# Altium integrated library TI Power Management Power Modules.IntLib: 831 symbols (part 26 of 44)
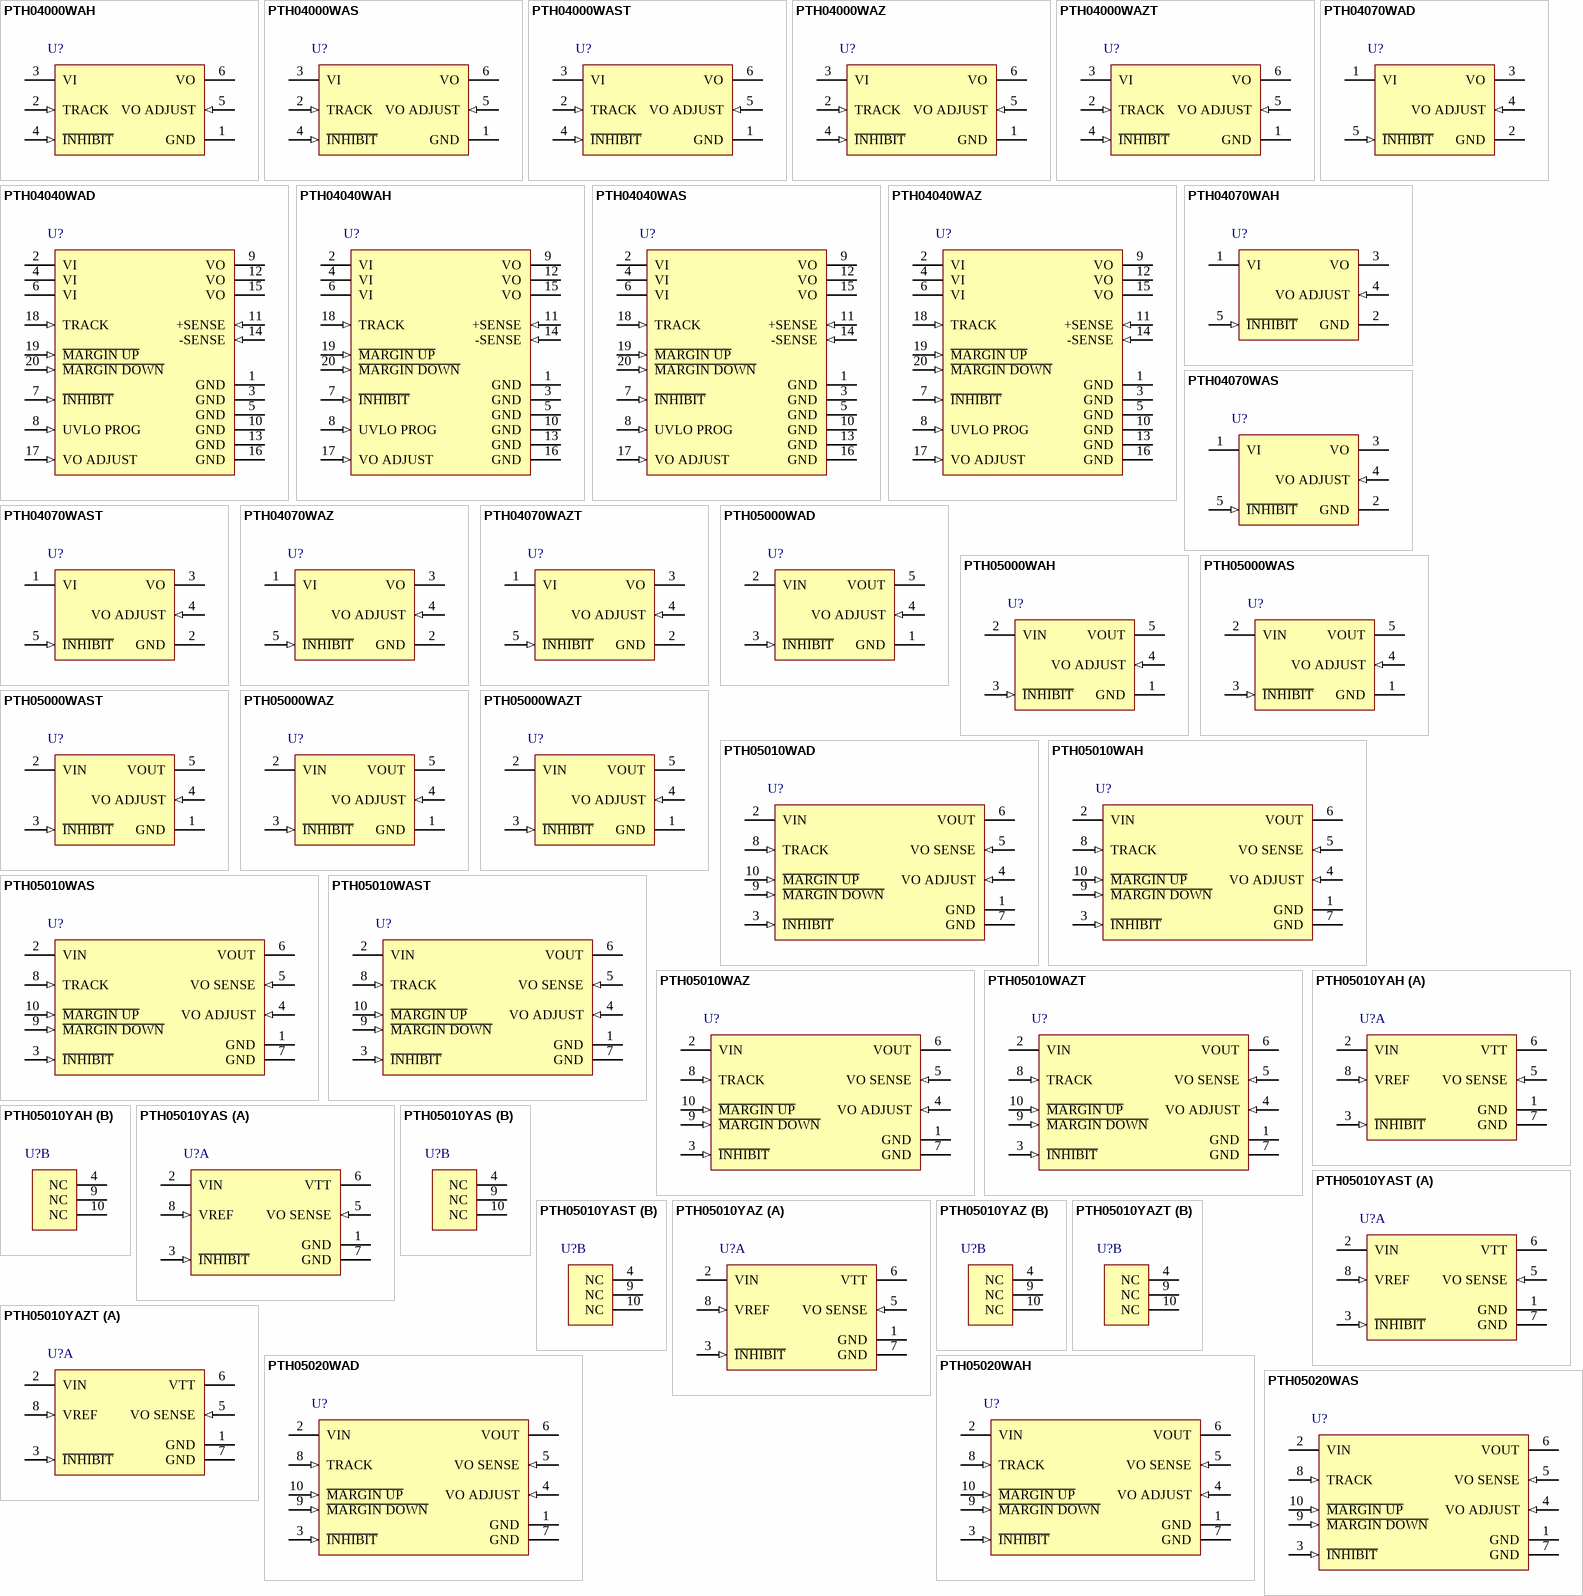
[diagram p48: symbols PTH04000WAH to PTH05020WAS]

## PTH05010WAZ
designator U?
15 A, 5 V Input Wide-Output Adjust Plug-in Power Module, -40 to 85 degC, 10-pin Module (EUJ10), Pb-Free (RoHS); Manufacturer: Texas Instruments; PartNumber: PTH05010WAZ; Iout(Max)(A): 15; Regulated Outputs(#): 1; SubFamily: Non-Isolated POL; Vin(Max)(V): 5.5; Vin(Min)(V): 4.5; VO Adjustable: TRUE; Vout(Max)(V): 3.6; Vout(Min)(V): 0.8; DatasheetVersion: SLTS204C; PackageVersion: 4204985-3/E; PackageReference: EUJ10; PackageDescription: 10-Pin Plastic Special Shape, Body 15.75 x 34.8 mm; Supplier 1: Digi-Key; Supplier Part Number 1: 296-20404-ND; Supplier 2: Newark; Supplier Part Number 2: 37K0716; Supplier 3: Mouser; Supplier Part Number 3: 595-PTH05010WAZ; Eco-Plan: Pb-Free (RoHS); Mounting Technology: Surface Mount; ComponentLink1Description: Manufacturer URL; ComponentLink1URL: http://www.ti.com/; ComponentLink2Description: Datasheet; ComponentLink2URL: http://www.ti.com/general/docs/lit/getliterature.tsp?genericPartNumber=PTH05010W&fileType=pdf; ComponentLink3Description: Package Specification; ComponentLink3URL: http://www.ti.com/lit/ml/mpds136d/mpds136d.pdf; ComponentLink4Description: URL Link1; ComponentLink4URL: Samples URL:http://www.ti.com/product/pth05010w#samples
footprint TI-EUJ10_V (10-Leads Double Sided Module, Body 34.8x15.75mm)
pins: 1 GND (power) "This is the common ground connection for the Vin and Vout power connections. It is also the 0 VDC reference for the control inputs", 2 VIN (power) "The positive input voltage power node to the module, which is referenced to common GND.", 3 ~{INHIBIT} (in) "The Inhibit pin is an open-collector/drain negative logic input that is referenced to GND. Applying a lowlevel ground signal to this input disables the module’s output and turns off the output voltage. When the Inhibit (See Datasheet)", 4 VO ADJUST (in) "A 0.1 W 1 % resistor must be directly connected between this pin and pin 7 (GND) to set the output voltage to a value higher than 0.8 V. The temperature stability of the resistor should be 100 ppm/degreesC (or better). The (See Datasheet)", 5 VO SENSE (in) "The sense input allows the regulation circuit to compensate for voltage drop between the module and the load. For optimal voltage accuracy Vo Sense should be connected to Vout. It can also be left disconnected.", 6 VOUT (power) "The regulated positive power output with respect to the GND node.", 7 GND (power) "This is the common ground connection for the Vin and Vout power connections. It is also the 0 VDC reference for the control inputs.", 8 TRACK (in) "This is an analog control input that enables the output voltage to follow an external voltage. This pin becomes active typically 20 ms after the input voltage has been applied, and allows direct control of the output voltage (See Datasheet)", 9 ~{MARGIN DOWN} (in) "When this input is asserted to GND, the output voltage is decreased by 5% from the nominal. The input requires an open-collector (open-drain) interface. It is not TTL compatible. A lower percent change can be accomodated (See Datasheet)", 10 ~{MARGIN UP} (in) "When this input is asserted to GND, the output voltage is increased by 5%. The input requires an open-collector (open-drain) interface. It is not TTL compatible. The percent change can be reduced with a series resistor. For (See Datasheet)"

## PTH05010WAZT
designator U?
15 A, 5 V Input Wide-Output Adjust Plug-in Power Module, -40 to 85 degC, 10-pin Module (EUJ10), Pb-Free (RoHS); Manufacturer: Texas Instruments; PartNumber: PTH05010WAZT; Iout(Max)(A): 15; Regulated Outputs(#): 1; SubFamily: Non-Isolated POL; Vin(Max)(V): 5.5; Vin(Min)(V): 4.5; VO Adjustable: TRUE; Vout(Max)(V): 3.6; Vout(Min)(V): 0.8; DatasheetVersion: SLTS204C; PackageVersion: 4204985-3/E; PackageReference: EUJ10; PackageDescription: 10-Pin Plastic Special Shape, Body 15.75 x 34.8 mm; Supplier 1: Digi-Key; Supplier Part Number 1: PTH05010WAZT-ND; Supplier 2: Newark; Supplier Part Number 2: 37K0717; Supplier 3: Mouser; Supplier Part Number 3: 595-PTH05010WAZT; Eco-Plan: Pb-Free (RoHS); Mounting Technology: Surface Mount; ComponentLink1Description: Manufacturer URL; ComponentLink1URL: http://www.ti.com/; ComponentLink2Description: Datasheet; ComponentLink2URL: http://www.ti.com/general/docs/lit/getliterature.tsp?genericPartNumber=PTH05010W&fileType=pdf; ComponentLink3Description: Package Specification; ComponentLink3URL: http://www.ti.com/lit/ml/mpds136d/mpds136d.pdf; ComponentLink4Description: URL Link1; ComponentLink4URL: Samples URL:http://www.ti.com/product/tps55010#samples
footprint TI-EUJ10_V (10-Leads Double Sided Module, Body 34.8x15.75mm)
pins: 1 GND (power) "This is the common ground connection for the Vin and Vout power connections. It is also the 0 VDC reference for the control inputs", 2 VIN (power) "The positive input voltage power node to the module, which is referenced to common GND.", 3 ~{INHIBIT} (in) "The Inhibit pin is an open-collector/drain negative logic input that is referenced to GND. Applying a lowlevel ground signal to this input disables the module’s output and turns off the output voltage. When the Inhibit (See Datasheet)", 4 VO ADJUST (in) "A 0.1 W 1 % resistor must be directly connected between this pin and pin 7 (GND) to set the output voltage to a value higher than 0.8 V. The temperature stability of the resistor should be 100 ppm/degreesC (or better). The (See Datasheet)", 5 VO SENSE (in) "The sense input allows the regulation circuit to compensate for voltage drop between the module and the load. For optimal voltage accuracy Vo Sense should be connected to Vout. It can also be left disconnected.", 6 VOUT (power) "The regulated positive power output with respect to the GND node.", 7 GND (power) "This is the common ground connection for the Vin and Vout power connections. It is also the 0 VDC reference for the control inputs.", 8 TRACK (in) "This is an analog control input that enables the output voltage to follow an external voltage. This pin becomes active typically 20 ms after the input voltage has been applied, and allows direct control of the output voltage (See Datasheet)", 9 ~{MARGIN DOWN} (in) "When this input is asserted to GND, the output voltage is decreased by 5% from the nominal. The input requires an open-collector (open-drain) interface. It is not TTL compatible. A lower percent change can be accomodated (See Datasheet)", 10 ~{MARGIN UP} (in) "When this input is asserted to GND, the output voltage is increased by 5%. The input requires an open-collector (open-drain) interface. It is not TTL compatible. The percent change can be reduced with a series resistor. For (See Datasheet)"

## PTH05010YAH
designator U?
15 A, 5 V Input Bus Termination Power Module for DDR / QDR Memory, -40 to 85 degC, 10-pin Module (EUH10), Pb-Free (RoHS); Manufacturer: Texas Instruments; PartNumber: PTH05010YAH; Iout(Max)(A): 15; Regulated Outputs(#): 1; SubFamily: Non-Isolated POL; Vin(Max)(V): 5.5; Vin(Min)(V): 4.5; Vout(Max)(V): 1.8; Vout(Min)(V): 0.55; DatasheetVersion: SLTS223A; PackageVersion: 4204984-3/E; PackageReference: EUH10; PackageDescription: 10-Pin Plastic Special Shape, Body 15.75 x 34.8 mm; Supplier 1: Digi-Key; Supplier Part Number 1: 296-20405-ND; Supplier 2: Mouser; Supplier Part Number 2: 595-PTH05010YAH; Eco-Plan: Pb-Free (RoHS); Mounting Technology: Through Hole; ComponentLink1Description: Manufacturer URL; ComponentLink1URL: http://www.ti.com/; ComponentLink2Description: Datasheet; ComponentLink2URL: http://www.ti.com/general/docs/lit/getliterature.tsp?genericPartNumber=PTH05010Y&fileType=pdf; ComponentLink3Description: Package Specification; ComponentLink3URL: http://www.ti.com/litv/pdf/mpds130d; ComponentLink4Description: URL Link1; ComponentLink4URL: Samples URL:http://www.ti.com/product/pth05010y#samples
footprint TI-EUH10_V (Module, 10-Leads, Body 34.8x15.75 mm)
part A pins: 1 GND (power) "This is the common ground connection for the VIN and VTT power connections. It is also the 0-VDC reference for the control inputs.", 2 VIN (power) "The positive input voltage power node to the module, which is referenced to common GND.", 3 ~{INHIBIT} (in) "The Inhibit pin is an open-collector/drain negative logic input that is referenced to GND. Applying a low-level ground signal to this input turns off the output voltage, VTT. Although the module is inhibited, a voltage, VDDQ (See Datasheet)", 5 VO SENSE (in) "The sense input allows the regulation circuit to compensate for voltage drop between the module and the load. For optimal voltage accuracy Vo Sense should be connected to VTT.", 6 VTT (power) "This is the regulated power output from the module with respect to the GND node, and the tracking termination supply for the application data and address buses. It is precisely regulated to the voltage applied to the (See Datasheet)", 7 GND (power) "This is the common ground connection for the VIN and VTT power connections. It is also the 0-VDC reference for the control inputs.", 8 VREF (in) "The module senses the voltage at this input to regulate the output voltage, VTT. The voltage at VREF is also the reference voltage for the system bus receiver comparators. It is normally set to precisely half the bus driver (See Datasheet)"
part B pins: 4 NC "No connect", 9 NC "No connect", 10 NC "No connect"

## PTH05010YAS
designator U?
15 A, 5 V Input Bus Termination Power Module for DDR / QDR Memory, -40 to 85 degC, 10-pin Module (EUJ10); Manufacturer: Texas Instruments; PartNumber: PTH05010YAS; Eco-Plan: TBD; Iout(Max)(A): 15; Regulated Outputs(#): 1; SubFamily: Non-Isolated POL; Vin(Max)(V): 5.5; Vin(Min)(V): 4.5; Vout(Max)(V): 1.8; Vout(Min)(V): 0.55; DatasheetVersion: SLTS223A; PackageVersion: 4204985-3/E; PackageReference: EUJ10; PackageDescription: 10-Pin Plastic Special Shape, Body 15.75 x 34.8 mm; Supplier 1: Digi-Key; Supplier Part Number 1: 296-20406-ND; Supplier 2: Mouser; Supplier Part Number 2: 595-PTH05010YAS; Mounting Technology: Surface Mount; ComponentLink1Description: Manufacturer URL; ComponentLink1URL: http://www.ti.com/; ComponentLink2Description: Datasheet; ComponentLink2URL: http://www.ti.com/general/docs/lit/getliterature.tsp?genericPartNumber=PTH05010Y&fileType=pdf; ComponentLink3Description: Package Specification; ComponentLink3URL: http://www.ti.com/lit/ml/mpds136d/mpds136d.pdf; ComponentLink4Description: URL Link1; ComponentLink4URL: Samples URL:http://www.ti.com/product/pth05010y#samples
footprint TI-EUJ10_V (10-Leads Double Sided Module, Body 34.8x15.75mm)
part A pins: 1 GND (power) "This is the common ground connection for the VIN and VTT power connections. It is also the 0-VDC reference for the control inputs.", 2 VIN (power) "The positive input voltage power node to the module, which is referenced to common GND.", 3 ~{INHIBIT} (in) "The Inhibit pin is an open-collector/drain negative logic input that is referenced to GND. Applying a low-level ground signal to this input turns off the output voltage, VTT. Although the module is inhibited, a voltage, VDDQ (See Datasheet)", 5 VO SENSE (in) "The sense input allows the regulation circuit to compensate for voltage drop between the module and the load. For optimal voltage accuracy Vo Sense should be connected to VTT.", 6 VTT (power) "This is the regulated power output from the module with respect to the GND node, and the tracking termination supply for the application data and address buses. It is precisely regulated to the voltage applied to the (See Datasheet)", 7 GND (power) "This is the common ground connection for the VIN and VTT power connections. It is also the 0-VDC reference for the control inputs.", 8 VREF (in) "The module senses the voltage at this input to regulate the output voltage, VTT. The voltage at VREF is also the reference voltage for the system bus receiver comparators. It is normally set to precisely half the bus driver (See Datasheet)"
part B pins: 4 NC "No connect", 9 NC "No connect", 10 NC "No connect"

## PTH05010YAST
designator U?
15 A, 5 V Input Bus Termination Power Module for DDR / QDR Memory, -40 to 85 degC, 10-pin Module (EUJ10); Manufacturer: Texas Instruments; PartNumber: PTH05010YAST; Eco-Plan: TBD; Iout(Max)(A): 15; Regulated Outputs(#): 1; SubFamily: Non-Isolated POL; Vin(Max)(V): 5.5; Vin(Min)(V): 4.5; Vout(Max)(V): 1.8; Vout(Min)(V): 0.55; DatasheetVersion: SLTS223A; PackageVersion: 4204985-3/E; PackageReference: EUJ10; PackageDescription: 10-Pin Plastic Special Shape, Body 15.75 x 34.8 mm; Supplier 1: Digi-Key; Supplier Part Number 1: PTH05010YAST-ND; Supplier 2: Mouser; Supplier Part Number 2: 595-PTH05010YAST; Mounting Technology: Surface Mount; ComponentLink1Description: Manufacturer URL; ComponentLink1URL: http://www.ti.com/; ComponentLink2Description: Datasheet; ComponentLink2URL: http://www.ti.com/general/docs/lit/getliterature.tsp?genericPartNumber=PTH05010Y&fileType=pdf; ComponentLink3Description: Package Specification; ComponentLink3URL: http://www.ti.com/lit/ml/mpds136d/mpds136d.pdf; ComponentLink4Description: URL Link1; ComponentLink4URL: Samples URL:http://www.ti.com/product/pth05010y#samples
footprint TI-EUJ10_V (10-Leads Double Sided Module, Body 34.8x15.75mm)
part A pins: 1 GND (power) "This is the common ground connection for the VIN and VTT power connections. It is also the 0-VDC reference for the control inputs.", 2 VIN (power) "The positive input voltage power node to the module, which is referenced to common GND.", 3 ~{INHIBIT} (in) "The Inhibit pin is an open-collector/drain negative logic input that is referenced to GND. Applying a low-level ground signal to this input turns off the output voltage, VTT. Although the module is inhibited, a voltage, VDDQ (See Datasheet)", 5 VO SENSE (in) "The sense input allows the regulation circuit to compensate for voltage drop between the module and the load. For optimal voltage accuracy Vo Sense should be connected to VTT.", 6 VTT (power) "This is the regulated power output from the module with respect to the GND node, and the tracking termination supply for the application data and address buses. It is precisely regulated to the voltage applied to the (See Datasheet)", 7 GND (power) "This is the common ground connection for the VIN and VTT power connections. It is also the 0-VDC reference for the control inputs.", 8 VREF (in) "The module senses the voltage at this input to regulate the output voltage, VTT. The voltage at VREF is also the reference voltage for the system bus receiver comparators. It is normally set to precisely half the bus driver (See Datasheet)"
part B pins: 4 NC "No connect", 9 NC "No connect", 10 NC "No connect"

## PTH05010YAZ
designator U?
15 A, 5 V Input Bus Termination Power Module for DDR / QDR Memory, -40 to 85 degC, 10-pin Module (EUJ10), Pb-Free (RoHS); Manufacturer: Texas Instruments; PartNumber: PTH05010YAZ; Iout(Max)(A): 15; Regulated Outputs(#): 1; SubFamily: Non-Isolated POL; Vin(Max)(V): 5.5; Vin(Min)(V): 4.5; Vout(Max)(V): 1.8; Vout(Min)(V): 0.55; DatasheetVersion: SLTS223A; PackageVersion: 4204985-3/E; PackageReference: EUJ10; PackageDescription: 10-Pin Plastic Special Shape, Body 15.75 x 34.8 mm; Supplier 1: Digi-Key; Supplier Part Number 1: 296-20407-ND; Supplier 2: Mouser; Supplier Part Number 2: 595-PTH05010YAZ; Eco-Plan: Pb-Free (RoHS); Mounting Technology: Surface Mount; ComponentLink1Description: Manufacturer URL; ComponentLink1URL: http://www.ti.com/; ComponentLink2Description: Datasheet; ComponentLink2URL: http://www.ti.com/general/docs/lit/getliterature.tsp?genericPartNumber=PTH05010Y&fileType=pdf; ComponentLink3Description: Package Specification; ComponentLink3URL: http://www.ti.com/lit/ml/mpds136d/mpds136d.pdf; ComponentLink4Description: URL Link1; ComponentLink4URL: Samples URL:http://www.ti.com/product/pth05010y#samples
footprint TI-EUJ10_V (10-Leads Double Sided Module, Body 34.8x15.75mm)
part A pins: 1 GND (power) "This is the common ground connection for the VIN and VTT power connections. It is also the 0-VDC reference for the control inputs.", 2 VIN (power) "The positive input voltage power node to the module, which is referenced to common GND.", 3 ~{INHIBIT} (in) "The Inhibit pin is an open-collector/drain negative logic input that is referenced to GND. Applying a low-level ground signal to this input turns off the output voltage, VTT. Although the module is inhibited, a voltage, VDDQ (See Datasheet)", 5 VO SENSE (in) "The sense input allows the regulation circuit to compensate for voltage drop between the module and the load. For optimal voltage accuracy Vo Sense should be connected to VTT.", 6 VTT (power) "This is the regulated power output from the module with respect to the GND node, and the tracking termination supply for the application data and address buses. It is precisely regulated to the voltage applied to the (See Datasheet)", 7 GND (power) "This is the common ground connection for the VIN and VTT power connections. It is also the 0-VDC reference for the control inputs.", 8 VREF (in) "The module senses the voltage at this input to regulate the output voltage, VTT. The voltage at VREF is also the reference voltage for the system bus receiver comparators. It is normally set to precisely half the bus driver (See Datasheet)"
part B pins: 4 NC "No connect", 9 NC "No connect", 10 NC "No connect"

## PTH05010YAZT
designator U?
15 A, 5 V Input Bus Termination Power Module for DDR / QDR Memory, -40 to 85 degC, 10-pin Module (EUJ10), Pb-Free (RoHS); Manufacturer: Texas Instruments; PartNumber: PTH05010YAZT; Iout(Max)(A): 15; Regulated Outputs(#): 1; SubFamily: Non-Isolated POL; Vin(Max)(V): 5.5; Vin(Min)(V): 4.5; Vout(Max)(V): 1.8; Vout(Min)(V): 0.55; DatasheetVersion: SLTS223A; PackageVersion: 4204985-3/E; PackageReference: EUJ10; PackageDescription: 10-Pin Plastic Special Shape, Body 15.75 x 34.8 mm; Supplier 1: Digi-Key; Supplier Part Number 1: PTH05010YAZT-ND; Supplier 2: Mouser; Supplier Part Number 2: 595-PTH05010YAZT; Eco-Plan: Pb-Free (RoHS); Mounting Technology: Surface Mount; ComponentLink1Description: Manufacturer URL; ComponentLink1URL: http://www.ti.com/; ComponentLink2Description: Datasheet; ComponentLink2URL: http://www.ti.com/general/docs/lit/getliterature.tsp?genericPartNumber=PTH05010Y&fileType=pdf; ComponentLink3Description: Package Specification; ComponentLink3URL: http://www.ti.com/lit/ml/mpds136d/mpds136d.pdf; ComponentLink4Description: URL Link1; ComponentLink4URL: Samples URL:http://www.ti.com/product/tps55010#samples
footprint TI-EUJ10_V (10-Leads Double Sided Module, Body 34.8x15.75mm)
part A pins: 1 GND (power) "This is the common ground connection for the VIN and VTT power connections. It is also the 0-VDC reference for the control inputs.", 2 VIN (power) "The positive input voltage power node to the module, which is referenced to common GND.", 3 ~{INHIBIT} (in) "The Inhibit pin is an open-collector/drain negative logic input that is referenced to GND. Applying a low-level ground signal to this input turns off the output voltage, VTT. Although the module is inhibited, a voltage, VDDQ (See Datasheet)", 5 VO SENSE (in) "The sense input allows the regulation circuit to compensate for voltage drop between the module and the load. For optimal voltage accuracy Vo Sense should be connected to VTT.", 6 VTT (power) "This is the regulated power output from the module with respect to the GND node, and the tracking termination supply for the application data and address buses. It is precisely regulated to the voltage applied to the (See Datasheet)", 7 GND (power) "This is the common ground connection for the VIN and VTT power connections. It is also the 0-VDC reference for the control inputs.", 8 VREF (in) "The module senses the voltage at this input to regulate the output voltage, VTT. The voltage at VREF is also the reference voltage for the system bus receiver comparators. It is normally set to precisely half the bus driver (See Datasheet)"
part B pins: 4 NC "No connect", 9 NC "No connect", 10 NC "No connect"

## PTH05020WAD
designator U?
22 A, 5 V Input Wide-Output Adjust Plug-in Power Module, -40 to 85 degC, 10-pin Module (EUK10), Pb-Free (RoHS); Manufacturer: Texas Instruments; PartNumber: PTH05020WAD; Iout(Max)(A): 22; Regulated Outputs(#): 1; SubFamily: Non-Isolated POL; Vin(Max)(V): 5.5; Vin(Min)(V): 4.5; VO Adjustable: TRUE; Vout(Max)(V): 3.6; Vout(Min)(V): 0.8; DatasheetVersion: SLTS207C; PackageVersion: 4204986-3/C; PackageReference: EUK10; PackageDescription: 10-Pin Plastic Special Shape, Body 22.1 x 37.97 mm; Supplier 1: Digi-Key; Supplier Part Number 1: PTH05020WADTI-ND; Supplier 2: Newark; Supplier Part Number 2: 54K0205; Supplier 3: Mouser; Supplier Part Number 3: 595-PTH05020WAD; Eco-Plan: Pb-Free (RoHS); Mounting Technology: Through Hole; ComponentLink1Description: Manufacturer URL; ComponentLink1URL: http://www.ti.com/; ComponentLink2Description: Datasheet; ComponentLink2URL: http://www.ti.com/general/docs/lit/getliterature.tsp?genericPartNumber=PTH05020W&fileType=pdf; ComponentLink3Description: Package Specification; ComponentLink3URL: http://www.ti.com/litv/pdf/mpds137b; ComponentLink4Description: URL Link1; ComponentLink4URL: Samples URL:http://www.ti.com/product/pth05020w#samples
footprint TI-EUK10_V (Module, 10-Leads, Body 37.97x22.1mm)
pins: 1 GND (power) "This is the common ground connection for the Vin and Vout power connections. It is also the 0 VDC reference for the control inputs", 2 VIN (power) "The positive input voltage power node to the module, which is referenced to common GND.", 3 ~{INHIBIT} (in) "The Inhibit pin is an open-collector/drain negative logic input that is referenced to GND. Applying a lowlevel ground signal to this input disables the module’s output and turns off the output voltage. When the Inhibit (See Datasheet)", 4 VO ADJUST (in) "A 0.1 W, 1 % tolerance (or better) resistor must be connected directly between this pin and pin 7 (GND) to set the output voltage to the desired value. The set point range for the output voltage is from 0.8 V to 3.6 V. The (See Datasheet)", 5 VO SENSE (in) "The sense input allows the regulation circuit to compensate for voltage drop between the module and the load. For optimal voltage accuracy Vo Sense should be connected to Vout. It can also be left disconnected.", 6 VOUT (power) "The regulated positive power output with respect to the GND node.", 7 GND (power) "This is the common ground connection for the Vin and Vout power connections. It is also the 0 VDC reference for the control inputs.", 8 TRACK (in) "This is an analog control input that enables the output voltage to follow an external voltage. This pin becomes active typically 20 ms after the input voltage has been applied, and allows direct control of the output voltage (See Datasheet)", 9 ~{MARGIN DOWN} (in) "When this input is asserted to GND, the output voltage is decreased by 5% from the nominal. The input requires an open-collector (open-drain) interface. It is not TTL compatible. A lower percent change can be accomodated (See Datasheet)", 10 ~{MARGIN UP} (in) "When this input is asserted to GND, the output voltage is increased by 5%. The input requires an open-collector (open-drain) interface. It is not TTL compatible. The percent change can be reduced with a series resistor. For (See Datasheet)"

## PTH05020WAH
designator U?
22 A, 5 V Input Wide-Output Adjust Plug-in Power Module, -40 to 85 degC, 10-pin Module (EUK10), Pb-Free (RoHS); Manufacturer: Texas Instruments; PartNumber: PTH05020WAH; Iout(Max)(A): 22; Regulated Outputs(#): 1; SubFamily: Non-Isolated POL; Vin(Max)(V): 5.5; Vin(Min)(V): 4.5; VO Adjustable: TRUE; Vout(Max)(V): 3.6; Vout(Min)(V): 0.8; DatasheetVersion: SLTS207C; PackageVersion: 4204986-3/C; PackageReference: EUK10; PackageDescription: 10-Pin Plastic Special Shape, Body 22.1 x 37.97 mm; Supplier 1: Digi-Key; Supplier Part Number 1: 296-20408-ND; Supplier 2: Newark; Supplier Part Number 2: 73H4317; Supplier 3: Mouser; Supplier Part Number 3: 595-PTH05020WAH; Eco-Plan: Pb-Free (RoHS); Mounting Technology: Through Hole; ComponentLink1Description: Manufacturer URL; ComponentLink1URL: http://www.ti.com/; ComponentLink2Description: Datasheet; ComponentLink2URL: http://www.ti.com/general/docs/lit/getliterature.tsp?genericPartNumber=PTH05020W&fileType=pdf; ComponentLink3Description: Package Specification; ComponentLink3URL: http://www.ti.com/litv/pdf/mpds137b; ComponentLink4Description: URL Link1; ComponentLink4URL: Samples URL:http://www.ti.com/product/pth05020w#samples
footprint TI-EUK10_V (Module, 10-Leads, Body 37.97x22.1mm)
pins: 1 GND (power) "This is the common ground connection for the Vin and Vout power connections. It is also the 0 VDC reference for the control inputs", 2 VIN (power) "The positive input voltage power node to the module, which is referenced to common GND.", 3 ~{INHIBIT} (in) "The Inhibit pin is an open-collector/drain negative logic input that is referenced to GND. Applying a lowlevel ground signal to this input disables the module’s output and turns off the output voltage. When the Inhibit (See Datasheet)", 4 VO ADJUST (in) "A 0.1 W, 1 % tolerance (or better) resistor must be connected directly between this pin and pin 7 (GND) to set the output voltage to the desired value. The set point range for the output voltage is from 0.8 V to 3.6 V. The (See Datasheet)", 5 VO SENSE (in) "The sense input allows the regulation circuit to compensate for voltage drop between the module and the load. For optimal voltage accuracy Vo Sense should be connected to Vout. It can also be left disconnected.", 6 VOUT (power) "The regulated positive power output with respect to the GND node.", 7 GND (power) "This is the common ground connection for the Vin and Vout power connections. It is also the 0 VDC reference for the control inputs.", 8 TRACK (in) "This is an analog control input that enables the output voltage to follow an external voltage. This pin becomes active typically 20 ms after the input voltage has been applied, and allows direct control of the output voltage (See Datasheet)", 9 ~{MARGIN DOWN} (in) "When this input is asserted to GND, the output voltage is decreased by 5% from the nominal. The input requires an open-collector (open-drain) interface. It is not TTL compatible. A lower percent change can be accomodated (See Datasheet)", 10 ~{MARGIN UP} (in) "When this input is asserted to GND, the output voltage is increased by 5%. The input requires an open-collector (open-drain) interface. It is not TTL compatible. The percent change can be reduced with a series resistor. For (See Datasheet)"

## PTH05020WAS
designator U?
22 A, 5 V Input Wide-Output Adjust Plug-in Power Module, -40 to 85 degC, 10-pin Module (EUL10); Manufacturer: Texas Instruments; PartNumber: PTH05020WAS; Eco-Plan: TBD; Iout(Max)(A): 22; Regulated Outputs(#): 1; SubFamily: Non-Isolated POL; Vin(Max)(V): 5.5; Vin(Min)(V): 4.5; VO Adjustable: TRUE; Vout(Max)(V): 3.6; Vout(Min)(V): 0.8; DatasheetVersion: SLTS207C; PackageVersion: 4204987-3/C; PackageReference: EUL10; PackageDescription: 10-Pin Plastic Special Shape, Body 22.1 x 37.97 mm; Supplier 1: Digi-Key; Supplier Part Number 1: 296-20409-ND; Supplier 2: Newark; Supplier Part Number 2: 73H4318; Supplier 3: Mouser; Supplier Part Number 3: 595-PTH05020WAS; Mounting Technology: Surface Mount; ComponentLink1Description: Manufacturer URL; ComponentLink1URL: http://www.ti.com/; ComponentLink2Description: Datasheet; ComponentLink2URL: http://www.ti.com/general/docs/lit/getliterature.tsp?genericPartNumber=PTH05020W&fileType=pdf; ComponentLink3Description: Package Specification; ComponentLink3URL: http://www.ti.com/lit/ml/mpds138b/mpds138b.pdf; ComponentLink4Description: URL Link1; ComponentLink4URL: Samples URL:http://www.ti.com/product/pth05020w#samples
footprint TI-EUL10_V (Module, 10-Leads, Body 37.97x22.1 mm)
pins: 1 GND (power) "This is the common ground connection for the Vin and Vout power connections. It is also the 0 VDC reference for the control inputs", 2 VIN (power) "The positive input voltage power node to the module, which is referenced to common GND.", 3 ~{INHIBIT} (in) "The Inhibit pin is an open-collector/drain negative logic input that is referenced to GND. Applying a lowlevel ground signal to this input disables the module’s output and turns off the output voltage. When the Inhibit (See Datasheet)", 4 VO ADJUST (in) "A 0.1 W, 1 % tolerance (or better) resistor must be connected directly between this pin and pin 7 (GND) to set the output voltage to the desired value. The set point range for the output voltage is from 0.8 V to 3.6 V. The (See Datasheet)", 5 VO SENSE (in) "The sense input allows the regulation circuit to compensate for voltage drop between the module and the load. For optimal voltage accuracy Vo Sense should be connected to Vout. It can also be left disconnected.", 6 VOUT (power) "The regulated positive power output with respect to the GND node.", 7 GND (power) "This is the common ground connection for the Vin and Vout power connections. It is also the 0 VDC reference for the control inputs.", 8 TRACK (in) "This is an analog control input that enables the output voltage to follow an external voltage. This pin becomes active typically 20 ms after the input voltage has been applied, and allows direct control of the output voltage (See Datasheet)", 9 ~{MARGIN DOWN} (in) "When this input is asserted to GND, the output voltage is decreased by 5% from the nominal. The input requires an open-collector (open-drain) interface. It is not TTL compatible. A lower percent change can be accomodated (See Datasheet)", 10 ~{MARGIN UP} (in) "When this input is asserted to GND, the output voltage is increased by 5%. The input requires an open-collector (open-drain) interface. It is not TTL compatible. The percent change can be reduced with a series resistor. For (See Datasheet)"

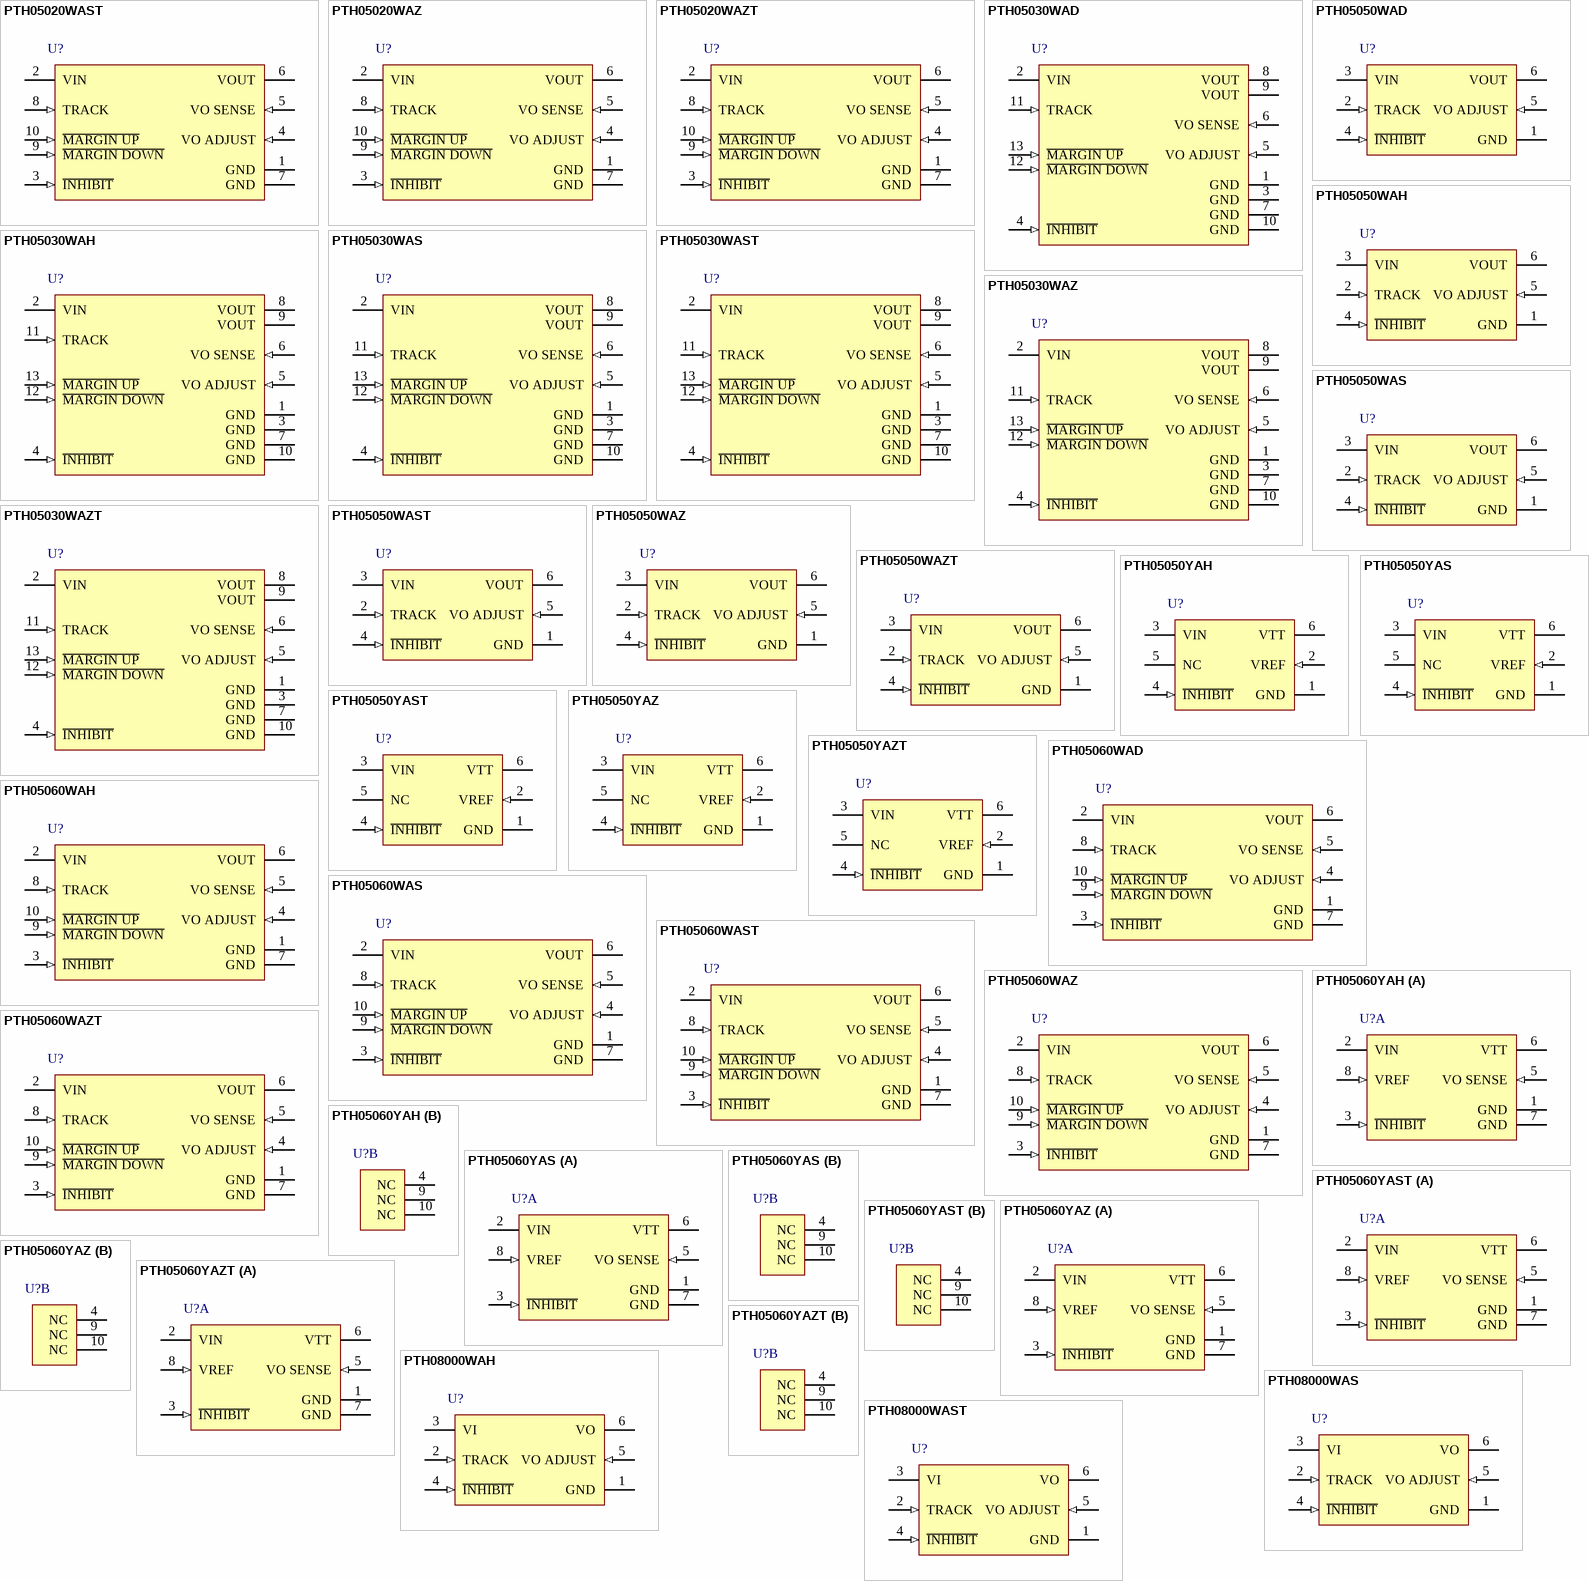
[diagram p15: symbols PTH05020WAST to PTH08000WAST]

## PTH05020WAST
designator U?
22 A, 5 V Input Wide-Output Adjust Plug-in Power Module, -40 to 85 degC, 10-pin Module (EUL10); Manufacturer: Texas Instruments; PartNumber: PTH05020WAST; Eco-Plan: TBD; Iout(Max)(A): 22; Regulated Outputs(#): 1; SubFamily: Non-Isolated POL; Vin(Max)(V): 5.5; Vin(Min)(V): 4.5; VO Adjustable: TRUE; Vout(Max)(V): 3.6; Vout(Min)(V): 0.8; DatasheetVersion: SLTS207C; PackageVersion: 4204987-3/C; PackageReference: EUL10; PackageDescription: 10-Pin Plastic Special Shape, Body 22.1 x 37.97 mm; Supplier 1: Digi-Key; Supplier Part Number 1: PTH05020WAST-ND; Supplier 2: Newark; Supplier Part Number 2: 01J0633; Supplier 3: Mouser; Supplier Part Number 3: 595-PTH05020WAST; Mounting Technology: Surface Mount; ComponentLink1Description: Manufacturer URL; ComponentLink1URL: http://www.ti.com/; ComponentLink2Description: Datasheet; ComponentLink2URL: http://www.ti.com/general/docs/lit/getliterature.tsp?genericPartNumber=PTH05020W&fileType=pdf; ComponentLink3Description: Package Specification; ComponentLink3URL: http://www.ti.com/lit/ml/mpds138b/mpds138b.pdf; ComponentLink4Description: URL Link1; ComponentLink4URL: Samples URL:http://www.ti.com/product/pth05020w#samples
footprint TI-EUL10_V (Module, 10-Leads, Body 37.97x22.1 mm)
pins: 1 GND (power) "This is the common ground connection for the Vin and Vout power connections. It is also the 0 VDC reference for the control inputs", 2 VIN (power) "The positive input voltage power node to the module, which is referenced to common GND.", 3 ~{INHIBIT} (in) "The Inhibit pin is an open-collector/drain negative logic input that is referenced to GND. Applying a lowlevel ground signal to this input disables the module’s output and turns off the output voltage. When the Inhibit (See Datasheet)", 4 VO ADJUST (in) "A 0.1 W, 1 % tolerance (or better) resistor must be connected directly between this pin and pin 7 (GND) to set the output voltage to the desired value. The set point range for the output voltage is from 0.8 V to 3.6 V. The (See Datasheet)", 5 VO SENSE (in) "The sense input allows the regulation circuit to compensate for voltage drop between the module and the load. For optimal voltage accuracy Vo Sense should be connected to Vout. It can also be left disconnected.", 6 VOUT (power) "The regulated positive power output with respect to the GND node.", 7 GND (power) "This is the common ground connection for the Vin and Vout power connections. It is also the 0 VDC reference for the control inputs.", 8 TRACK (in) "This is an analog control input that enables the output voltage to follow an external voltage. This pin becomes active typically 20 ms after the input voltage has been applied, and allows direct control of the output voltage (See Datasheet)", 9 ~{MARGIN DOWN} (in) "When this input is asserted to GND, the output voltage is decreased by 5% from the nominal. The input requires an open-collector (open-drain) interface. It is not TTL compatible. A lower percent change can be accomodated (See Datasheet)", 10 ~{MARGIN UP} (in) "When this input is asserted to GND, the output voltage is increased by 5%. The input requires an open-collector (open-drain) interface. It is not TTL compatible. The percent change can be reduced with a series resistor. For (See Datasheet)"

## PTH05020WAZ
designator U?
22 A, 5 V Input Wide-Output Adjust Plug-in Power Module, -40 to 85 degC, 10-pin Module (EUL10), Pb-Free (RoHS); Manufacturer: Texas Instruments; PartNumber: PTH05020WAZ; Iout(Max)(A): 22; Regulated Outputs(#): 1; SubFamily: Non-Isolated POL; Vin(Max)(V): 5.5; Vin(Min)(V): 4.5; VO Adjustable: TRUE; Vout(Max)(V): 3.6; Vout(Min)(V): 0.8; DatasheetVersion: SLTS207C; PackageVersion: 4204987-3/C; PackageReference: EUL10; PackageDescription: 10-Pin Plastic Special Shape, Body 22.1 x 37.97 mm; Supplier 1: Digi-Key; Supplier Part Number 1: 296-20410-ND; Supplier 2: Newark; Supplier Part Number 2: 37K0720; Supplier 3: Mouser; Supplier Part Number 3: 595-PTH05020WAZ; Eco-Plan: Pb-Free (RoHS); Mounting Technology: Surface Mount; ComponentLink1Description: Manufacturer URL; ComponentLink1URL: http://www.ti.com/; ComponentLink2Description: Datasheet; ComponentLink2URL: http://www.ti.com/general/docs/lit/getliterature.tsp?genericPartNumber=PTH05020W&fileType=pdf; ComponentLink3Description: Package Specification; ComponentLink3URL: http://www.ti.com/lit/ml/mpds138b/mpds138b.pdf; ComponentLink4Description: URL Link1; ComponentLink4URL: Samples URL:http://www.ti.com/product/pth05020w#samples
footprint TI-EUL10_V (Module, 10-Leads, Body 37.97x22.1 mm)
pins: 1 GND (power) "This is the common ground connection for the Vin and Vout power connections. It is also the 0 VDC reference for the control inputs", 2 VIN (power) "The positive input voltage power node to the module, which is referenced to common GND.", 3 ~{INHIBIT} (in) "The Inhibit pin is an open-collector/drain negative logic input that is referenced to GND. Applying a lowlevel ground signal to this input disables the module’s output and turns off the output voltage. When the Inhibit (See Datasheet)", 4 VO ADJUST (in) "A 0.1 W, 1 % tolerance (or better) resistor must be connected directly between this pin and pin 7 (GND) to set the output voltage to the desired value. The set point range for the output voltage is from 0.8 V to 3.6 V. The (See Datasheet)", 5 VO SENSE (in) "The sense input allows the regulation circuit to compensate for voltage drop between the module and the load. For optimal voltage accuracy Vo Sense should be connected to Vout. It can also be left disconnected.", 6 VOUT (power) "The regulated positive power output with respect to the GND node.", 7 GND (power) "This is the common ground connection for the Vin and Vout power connections. It is also the 0 VDC reference for the control inputs.", 8 TRACK (in) "This is an analog control input that enables the output voltage to follow an external voltage. This pin becomes active typically 20 ms after the input voltage has been applied, and allows direct control of the output voltage (See Datasheet)", 9 ~{MARGIN DOWN} (in) "When this input is asserted to GND, the output voltage is decreased by 5% from the nominal. The input requires an open-collector (open-drain) interface. It is not TTL compatible. A lower percent change can be accomodated (See Datasheet)", 10 ~{MARGIN UP} (in) "When this input is asserted to GND, the output voltage is increased by 5%. The input requires an open-collector (open-drain) interface. It is not TTL compatible. The percent change can be reduced with a series resistor. For (See Datasheet)"

## PTH05020WAZT
designator U?
22 A, 5 V Input Wide-Output Adjust Plug-in Power Module, -40 to 85 degC, 10-pin Module (EUL10), Pb-Free (RoHS); Manufacturer: Texas Instruments; PartNumber: PTH05020WAZT; Iout(Max)(A): 22; Regulated Outputs(#): 1; SubFamily: Non-Isolated POL; Vin(Max)(V): 5.5; Vin(Min)(V): 4.5; VO Adjustable: TRUE; Vout(Max)(V): 3.6; Vout(Min)(V): 0.8; DatasheetVersion: SLTS207C; PackageVersion: 4204987-3/C; PackageReference: EUL10; PackageDescription: 10-Pin Plastic Special Shape, Body 22.1 x 37.97 mm; Supplier 1: Digi-Key; Supplier Part Number 1: PTH05020WAZT-ND; Supplier 2: Newark; Supplier Part Number 2: 37K0721; Supplier 3: Mouser; Supplier Part Number 3: 595-PTH05020WAZT; Eco-Plan: Pb-Free (RoHS); Mounting Technology: Surface Mount; ComponentLink1Description: Manufacturer URL; ComponentLink1URL: http://www.ti.com/; ComponentLink2Description: Datasheet; ComponentLink2URL: http://www.ti.com/general/docs/lit/getliterature.tsp?genericPartNumber=PTH05020W&fileType=pdf; ComponentLink3Description: Package Specification; ComponentLink3URL: http://www.ti.com/lit/ml/mpds138b/mpds138b.pdf; ComponentLink4Description: URL Link1; ComponentLink4URL: Samples URL:http://www.ti.com/product/tps55010#samples
footprint TI-EUL10_V (Module, 10-Leads, Body 37.97x22.1 mm)
pins: 1 GND (power) "This is the common ground connection for the Vin and Vout power connections. It is also the 0 VDC reference for the control inputs", 2 VIN (power) "The positive input voltage power node to the module, which is referenced to common GND.", 3 ~{INHIBIT} (in) "The Inhibit pin is an open-collector/drain negative logic input that is referenced to GND. Applying a lowlevel ground signal to this input disables the module’s output and turns off the output voltage. When the Inhibit (See Datasheet)", 4 VO ADJUST (in) "A 0.1 W, 1 % tolerance (or better) resistor must be connected directly between this pin and pin 7 (GND) to set the output voltage to the desired value. The set point range for the output voltage is from 0.8 V to 3.6 V. The (See Datasheet)", 5 VO SENSE (in) "The sense input allows the regulation circuit to compensate for voltage drop between the module and the load. For optimal voltage accuracy Vo Sense should be connected to Vout. It can also be left disconnected.", 6 VOUT (power) "The regulated positive power output with respect to the GND node.", 7 GND (power) "This is the common ground connection for the Vin and Vout power connections. It is also the 0 VDC reference for the control inputs.", 8 TRACK (in) "This is an analog control input that enables the output voltage to follow an external voltage. This pin becomes active typically 20 ms after the input voltage has been applied, and allows direct control of the output voltage (See Datasheet)", 9 ~{MARGIN DOWN} (in) "When this input is asserted to GND, the output voltage is decreased by 5% from the nominal. The input requires an open-collector (open-drain) interface. It is not TTL compatible. A lower percent change can be accomodated (See Datasheet)", 10 ~{MARGIN UP} (in) "When this input is asserted to GND, the output voltage is increased by 5%. The input requires an open-collector (open-drain) interface. It is not TTL compatible. The percent change can be reduced with a series resistor. For (See Datasheet)"

## PTH05030WAD
designator U?
30 A, 5 V Input Wide-Output Adjust Plug-in Power Module, -40 to 85 degC, 13-pin Module (EUM13), Pb-Free (RoHS); Manufacturer: Texas Instruments; PartNumber: PTH05030WAD; Iout(Max)(A): 30; Regulated Outputs(#): 1; SubFamily: Non-Isolated POL; Vin(Max)(V): 5.5; Vin(Min)(V): 4.5; VO Adjustable: TRUE; Vout(Max)(V): 3.6; Vout(Min)(V): 0.8; DatasheetVersion: SLTS210B; PackageVersion: 4204988/B; PackageReference: EUM13; PackageDescription: 13-Pin Plastic Special Shape, Body 28.45 x 34.8 mm; Supplier 1: Digi-Key; Supplier Part Number 1: PTH05030WADTI-ND; Supplier 2: Newark; Supplier Part Number 2: 58K6005; Supplier 3: Mouser; Supplier Part Number 3: 595-PTH05030WAD; Eco-Plan: Pb-Free (RoHS); Mounting Technology: Through Hole; ComponentLink1Description: Manufacturer URL; ComponentLink1URL: http://www.ti.com/; ComponentLink2Description: Datasheet; ComponentLink2URL: http://www.ti.com/general/docs/lit/getliterature.tsp?genericPartNumber=PTH05030W&fileType=pdf; ComponentLink3Description: Package Specification; ComponentLink3URL: http://www.ti.com/litv/pdf/mpds134a; ComponentLink4Description: URL Link1; ComponentLink4URL: Samples URL:http://www.ti.com/product/pth05030w#samples
footprint TI-EUM13_V (Module, 13-Leads, Body 34.8x28.45mm)
pins: 1 GND (power) "This is the common ground connection for the Vin and Vout power connections. It is also the 0 VDC reference for the control inputs.", 2 VIN (power) "The positive input voltage power node to the module, which is referenced to common GND.", 3 GND (power) "This is the common ground connection for the Vin and Vout power connections. It is also the 0 VDC reference for the control inputs.", 4 ~{INHIBIT} (in) "The Inhibit pin is an open-collector/drain negative logic input that is referenced to GND. Applying a lowlevel ground signal to this input disables the module’s output and turns off the output voltage. When the Inhibit (See Datasheet)", 5 VO ADJUST (in) "A 0.1 W 1 % resistor must be directly connected between this pin and pin 7 (GND) to set the output voltage to a value higher than 0.8 V. The temperature stability of the resistor should be 100 ppm/degreesC (or better). The (See Datasheet)", 6 VO SENSE (in) "The sense input allows the regulation circuit to compensate for voltage drop between the module and the load. For optimal voltage accuracy Vo Sense should be connected to Vout. It can also be left disconnected.", 7 GND (power) "This is the common ground connection for the Vin and Vout power connections. It is also the 0 VDC reference for the control inputs.", 8 VOUT (power) "The regulated positive power output with respect to the GND node.", 9 VOUT (power) "The regulated positive power output with respect to the GND node.", 10 GND (power) "This is the common ground connection for the Vin and Vout power connections. It is also the 0 VDC reference for the control inputs.", 11 TRACK (in) "This is an analog control input that enables the output voltage to follow an external voltage. This pin becomes active typically 20 ms after the input voltage has been applied, and allows direct control of the output voltage (See Datasheet)", 12 ~{MARGIN DOWN} (in) "When this input is asserted to GND, the output voltage is decreased by 5% from the nominal. The input requires an open-collector (open-drain) interface. It is not TTL compatible. A lower percent change can be accomodated (See Datasheet)", 13 ~{MARGIN UP} (in) "When this input is asserted to GND, the output voltage is increased by 5%. The input requires an open-collector (open-drain) interface. It is not TTL compatible. The percent change can be reduced with a series resistor. For (See Datasheet)"

## PTH05030WAH
designator U?
30 A, 5 V Input Wide-Output Adjust Plug-in Power Module, -40 to 85 degC, 13-pin Module (EUM13), Pb-Free (RoHS); Manufacturer: Texas Instruments; PartNumber: PTH05030WAH; Iout(Max)(A): 30; Regulated Outputs(#): 1; SubFamily: Non-Isolated POL; Vin(Max)(V): 5.5; Vin(Min)(V): 4.5; VO Adjustable: TRUE; Vout(Max)(V): 3.6; Vout(Min)(V): 0.8; DatasheetVersion: SLTS210B; PackageVersion: 4204988/B; PackageReference: EUM13; PackageDescription: 13-Pin Plastic Special Shape, Body 28.45 x 34.8 mm; Supplier 1: Digi-Key; Supplier Part Number 1: 296-20411-ND; Supplier 2: Newark; Supplier Part Number 2: 01J0634; Supplier 3: Mouser; Supplier Part Number 3: 595-PTH05030WAH; Eco-Plan: Pb-Free (RoHS); Mounting Technology: Through Hole; ComponentLink1Description: Manufacturer URL; ComponentLink1URL: http://www.ti.com/; ComponentLink2Description: Datasheet; ComponentLink2URL: http://www.ti.com/general/docs/lit/getliterature.tsp?genericPartNumber=PTH05030W&fileType=pdf; ComponentLink3Description: Package Specification; ComponentLink3URL: http://www.ti.com/litv/pdf/mpds134a; ComponentLink4Description: URL Link1; ComponentLink4URL: Samples URL:http://www.ti.com/product/pth05030w#samples
footprint TI-EUM13_V (Module, 13-Leads, Body 34.8x28.45mm)
pins: 1 GND (power) "This is the common ground connection for the Vin and Vout power connections. It is also the 0 VDC reference for the control inputs.", 2 VIN (power) "The positive input voltage power node to the module, which is referenced to common GND.", 3 GND (power) "This is the common ground connection for the Vin and Vout power connections. It is also the 0 VDC reference for the control inputs.", 4 ~{INHIBIT} (in) "The Inhibit pin is an open-collector/drain negative logic input that is referenced to GND. Applying a lowlevel ground signal to this input disables the module’s output and turns off the output voltage. When the Inhibit (See Datasheet)", 5 VO ADJUST (in) "A 0.1 W 1 % resistor must be directly connected between this pin and pin 7 (GND) to set the output voltage to a value higher than 0.8 V. The temperature stability of the resistor should be 100 ppm/degreesC (or better). The (See Datasheet)", 6 VO SENSE (in) "The sense input allows the regulation circuit to compensate for voltage drop between the module and the load. For optimal voltage accuracy Vo Sense should be connected to Vout. It can also be left disconnected.", 7 GND (power) "This is the common ground connection for the Vin and Vout power connections. It is also the 0 VDC reference for the control inputs.", 8 VOUT (power) "The regulated positive power output with respect to the GND node.", 9 VOUT (power) "The regulated positive power output with respect to the GND node.", 10 GND (power) "This is the common ground connection for the Vin and Vout power connections. It is also the 0 VDC reference for the control inputs.", 11 TRACK (in) "This is an analog control input that enables the output voltage to follow an external voltage. This pin becomes active typically 20 ms after the input voltage has been applied, and allows direct control of the output voltage (See Datasheet)", 12 ~{MARGIN DOWN} (in) "When this input is asserted to GND, the output voltage is decreased by 5% from the nominal. The input requires an open-collector (open-drain) interface. It is not TTL compatible. A lower percent change can be accomodated (See Datasheet)", 13 ~{MARGIN UP} (in) "When this input is asserted to GND, the output voltage is increased by 5%. The input requires an open-collector (open-drain) interface. It is not TTL compatible. The percent change can be reduced with a series resistor. For (See Datasheet)"